# Altium integrated library Texas Instruments Power Management PWM Controller.IntLib: 1227 symbols (part 12 of 49)
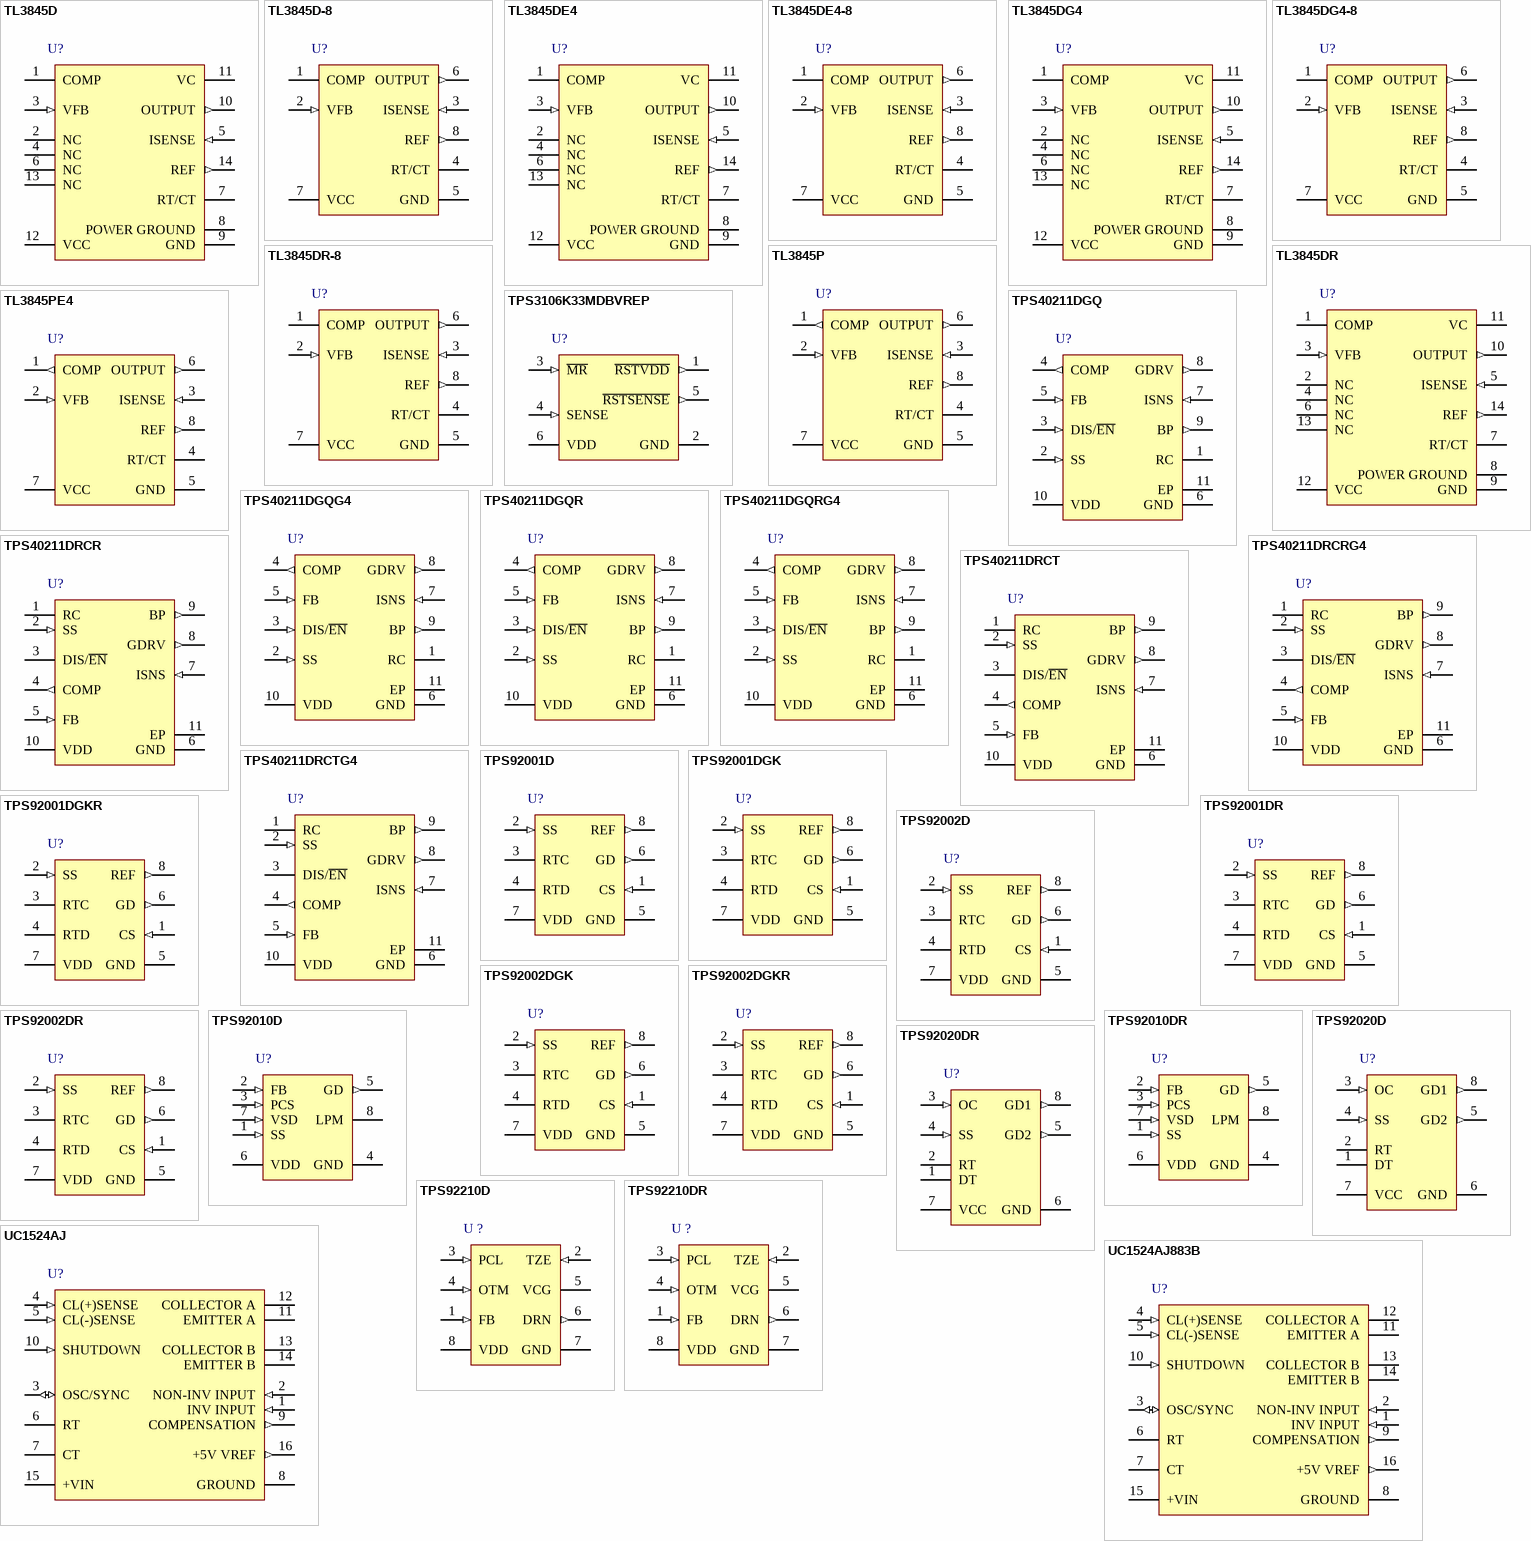
[diagram p54: symbols TL3845D to UC1524AJ883B]

## TPS40211DRCRG4
designator U?
4.5 to 52 V Input Current Mode Boost Controller, 95 % Duty Cycle, -40 to +125 degC, 10-pin SON (DRC), Green (RoHS & no Sb/Br); PartNumber: TPS40211DRCRG4; Manufacturer: Texas Instruments; Duty Cycle(Max)(%): 95; Rating: Catalog; Regulated Outputs(#): 1; SubFamily: PWM Controller; Switching Frequency(Max)(kHz): 1000; DatasheetVersion: SLUS772E; PackageVersion: revL, Sep-2011; PackageReference: DRC10-2400X1650TP; PackageDescription: 10-Pin Plastic Small Outline No-Lead, 3 x 3 x 1 mm Body, 0.5 mm Pitch, Exposed Pad; Supplier 1: Digi-Key; Supplier Part Number 1: TPS40211DRCRG4-ND; Supplier 2: Mouser; Supplier Part Number 2: 595-TPS40211DRCRG4; Eco-Plan: Green (RoHS & no Sb/Br); Topology: Boost; Mounting Technology: Surface Mount; ComponentLink1Description: Datasheet; ComponentLink1URL: http://www.ti.com/general/docs/lit/getliterature.tsp?genericPartNumber=TPS40211&fileType=pdf
footprint DRC10-2400X1650TP (SON, 10-Leads, Body 3x3mm, Pitch 0.5mm, Thermal Pad 2.4x1.65mm, TI Recommended)
pins: 1 RC "Switching frequency setting pin. Connect a resistor from RC pin to VDD of the IC power supply and a capacitor from RC to GND.", 2 SS (in) "Soft-start time programming pin. Connect capacitor from SS pin to GND to program converter soft-start time. This pin also functions as a timeout timer when the power supply is in an overcurrent condition.", 3 DIS/~{EN} "Disable pin. Pulling this pin high, places the part into a shutdown mode. Shutdown mode is characterized by a very low quiescent current. While in shutdown mode, the functionality of all blocks is disabled and the BP (See Datasheet)", 4 COMP (out) "Error amplifier output. Connect control loop compensation network between COMP pin and FB pin.", 5 FB (in) "Error amplifier inverting input. Connect a voltage divider from the output to this pin to set output voltage. Compensation network is connected between this pin and COMP.", 6 GND (power) "Device ground.", 7 ISNS (in) "Current sense pin. Connect an external current sensing resistor between this pin and GND. The voltage on this pin is used to provide current feedback in the control loop and detect an overcurrent condition. An overcurrent (See Datasheet)", 8 GDRV (out) "Connect the gate of the power N channel MOSFET to this pin.", 9 BP (out) "Regulator output pin. Connect a 1.0-uF bypass capacitor from this pin to GND.", 10 VDD (power) "System input voltage. Connect a local bypass capacitor from this pin to GND. Depending on the amount of required slope compensation, this pin can be connected to the converter output. See Application Information section for (See Datasheet)", 11 EP "Exposed thermal pad"

## TPS40211DRCT
designator U?
4.5 to 52 V Input Current Mode Boost Controller, 95 % Duty Cycle, -40 to +125 degC, 10-pin SON (DRC), Green (RoHS & no Sb/Br); PartNumber: TPS40211DRCT; Manufacturer: Texas Instruments; Duty Cycle(Max)(%): 95; Rating: Catalog; Regulated Outputs(#): 1; SubFamily: PWM Controller; Switching Frequency(Max)(kHz): 1000; DatasheetVersion: SLUS772E; PackageVersion: revL, Sep-2011; PackageReference: DRC10-2400X1650TP; PackageDescription: 10-Pin Plastic Small Outline No-Lead, 3 x 3 x 1 mm Body, 0.5 mm Pitch, Exposed Pad; Supplier 1: Digi-Key; Supplier Part Number 1: 296-23414-2-ND; Supplier 2: Digi-Key; Supplier Part Number 2: 296-23414-1-ND; Supplier 3: Digi-Key; Supplier Part Number 3: 296-23414-6-ND; Supplier 4: Newark; Supplier Part Number 4: 08P4468; Supplier 5: Mouser; Supplier Part Number 5: 595-TPS40211DRCT; Eco-Plan: Green (RoHS & no Sb/Br); Topology: Boost; Mounting Technology: Surface Mount; ComponentLink1Description: Datasheet; ComponentLink1URL: http://www.ti.com/general/docs/lit/getliterature.tsp?genericPartNumber=TPS40211&fileType=pdf
footprint DRC10-2400X1650TP (SON, 10-Leads, Body 3x3mm, Pitch 0.5mm, Thermal Pad 2.4x1.65mm, TI Recommended)
pins: 1 RC "Switching frequency setting pin. Connect a resistor from RC pin to VDD of the IC power supply and a capacitor from RC to GND.", 2 SS (in) "Soft-start time programming pin. Connect capacitor from SS pin to GND to program converter soft-start time. This pin also functions as a timeout timer when the power supply is in an overcurrent condition.", 3 DIS/~{EN} "Disable pin. Pulling this pin high, places the part into a shutdown mode. Shutdown mode is characterized by a very low quiescent current. While in shutdown mode, the functionality of all blocks is disabled and the BP (See Datasheet)", 4 COMP (out) "Error amplifier output. Connect control loop compensation network between COMP pin and FB pin.", 5 FB (in) "Error amplifier inverting input. Connect a voltage divider from the output to this pin to set output voltage. Compensation network is connected between this pin and COMP.", 6 GND (power) "Device ground.", 7 ISNS (in) "Current sense pin. Connect an external current sensing resistor between this pin and GND. The voltage on this pin is used to provide current feedback in the control loop and detect an overcurrent condition. An overcurrent (See Datasheet)", 8 GDRV (out) "Connect the gate of the power N channel MOSFET to this pin.", 9 BP (out) "Regulator output pin. Connect a 1.0-uF bypass capacitor from this pin to GND.", 10 VDD (power) "System input voltage. Connect a local bypass capacitor from this pin to GND. Depending on the amount of required slope compensation, this pin can be connected to the converter output. See Application Information section for (See Datasheet)", 11 EP "Exposed thermal pad"

## TPS40211DRCTG4
designator U?
4.5 to 52 V Input Current Mode Boost Controller, 95 % Duty Cycle, -40 to +125 degC, 10-pin SON (DRC), Green (RoHS & no Sb/Br); PartNumber: TPS40211DRCTG4; Manufacturer: Texas Instruments; Control Method: Voltage; Duty Cycle(Max)(%): 95; Rating: Catalog; Regulated Outputs(#): 1; SubFamily: PWM Controller; Switching Frequency(Max)(kHz): 1000; DatasheetVersion: SLUS772E; PackageVersion: revL, Sep-2011; PackageReference: DRC10-2400X1650TP; PackageDescription: 10-Pin Plastic Small Outline No-Lead, 3 x 3 x 1 mm Body, 0.5 mm Pitch, Exposed Pad; Supplier 1: Digi-Key; Supplier Part Number 1: TPS40211DRCTG4-ND; Supplier 2: Mouser; Supplier Part Number 2: 595-TPS40211DRCTG4; Eco-Plan: Green (RoHS & no Sb/Br); Topology: Boost; Mounting Technology: Surface Mount; ComponentLink1Description: Datasheet; ComponentLink1URL: http://www.ti.com/general/docs/lit/getliterature.tsp?genericPartNumber=TPS40211&fileType=pdf
footprint DRC10-2400X1650TP (SON, 10-Leads, Body 3x3mm, Pitch 0.5mm, Thermal Pad 2.4x1.65mm, TI Recommended)
pins: 1 RC "Switching frequency setting pin. Connect a resistor from RC pin to VDD of the IC power supply and a capacitor from RC to GND.", 2 SS (in) "Soft-start time programming pin. Connect capacitor from SS pin to GND to program converter soft-start time. This pin also functions as a timeout timer when the power supply is in an overcurrent condition.", 3 DIS/~{EN} "Disable pin. Pulling this pin high, places the part into a shutdown mode. Shutdown mode is characterized by a very low quiescent current. While in shutdown mode, the functionality of all blocks is disabled and the BP (See Datasheet)", 4 COMP (out) "Error amplifier output. Connect control loop compensation network between COMP pin and FB pin.", 5 FB (in) "Error amplifier inverting input. Connect a voltage divider from the output to this pin to set output voltage. Compensation network is connected between this pin and COMP.", 6 GND (power) "Device ground.", 7 ISNS (in) "Current sense pin. Connect an external current sensing resistor between this pin and GND. The voltage on this pin is used to provide current feedback in the control loop and detect an overcurrent condition. An overcurrent (See Datasheet)", 8 GDRV (out) "Connect the gate of the power N channel MOSFET to this pin.", 9 BP (out) "Regulator output pin. Connect a 1.0-uF bypass capacitor from this pin to GND.", 10 VDD (power) "System input voltage. Connect a local bypass capacitor from this pin to GND. Depending on the amount of required slope compensation, this pin can be connected to the converter output. See Application Information section for (See Datasheet)", 11 EP "Exposed thermal pad"

## TPS92001D
designator U?
General Purpose LED Lighting PWM Controller with Current Mode control, -40 to 85 degC, 8-pin SOIC (D),Green (RoHS & no Sb/Br); PartNumber: TPS92001D; Manufacturer: Texas Instruments; Frequency(Max)(kHz): 1000; Rating: Catalog; Topology: Flyback; UVLO Thresholds On/Off(V): 10/8; DatasheetVersion: SLUSA24A; PackageVersion: revM, Jun-2011; PackageReference: D8; PackageDescription: 8-Pin Plastic Small Outline Integrated Circuit, 4.9 x 3.9 mm, Pitch 1.27 mm Pitch; Supplier 1: Digi-Key; Supplier Part Number 1: TPS92001D-ND; Supplier 2: Newark; Supplier Part Number 2: 72R6682; Supplier 3: Mouser; Supplier Part Number 3: 595-TPS92001D; Control Method: Current; Eco-Plan: Green (RoHS & no Sb/Br); SubFamily: PWM Controller; Mounting Technology: Surface Mount; Code_JEDEC: MS-012AA; ComponentLink1Description: Datasheet; ComponentLink1URL: http://www.ti.com/general/docs/lit/getliterature.tsp?genericPartNumber=TPS92001&fileType=pdf
footprint D8_N (SOIC, 8-Leads, Body 4.9x3.9mm, Pitch 1.27mm, IPC Medium Density)
footprint D8_L (SOIC, 8-Leads, Body 4.9x3.9mm, Pitch 1.27mm, IPC High Density)
footprint D8_M (SOIC, 8-Leads, Body 4.9x3.9mm, Pitch 1.27mm, IPC Low Density)
pins: 1 CS (in) "This pin is the summing node for current sense feedback, voltage sense feedback (by optocoupler) and slope compensation. Slope compensation is derived from the rising voltage at the timing capacitor and can be buffered with (See Datasheet)", 2 SS (in) "This pin serves two functions. The soft start timing capacitor connects to SS and is charged by an internal 6-µA current source. Under normal soft-start, the SS pin is discharged to at least 0.4 V and then ramps positive to (See Datasheet)", 3 RTC "This pin connects to timing resistor RRTC , and controls the positive ramp (rise) time of the internal oscillator (see Equation 1). The positive threshold of the internal oscillator is sensed through inactive timing resistor (See Datasheet)", 4 RTD "This pin connects to timing resistor RTD and controls the negative ramp (fall) time of the internal oscillator (see Equation 2). The negative threshold of the internal oscillator is sensed through inactive timing resistor (See Datasheet)", 5 GND (power) "Reference ground and power ground for all functions.", 6 GD (out) "This pin is the high current power driver output. A minimum series gate resistor of 3.9 ohm is recommended to limit the gate drive current when operating with high-bias voltages.", 7 VDD (power) "The power input connection for this device. This pin is shunt regulated at 17.5 V which is sufficiently below the voltage rating of the DMOS output driver stage. VDD should be bypassed with a 1-uF ceramic capacitor.", 8 REF (out) "The internal 5-V reference output. This reference is buffered and is available on the REF pin. The REF pin should be bypassed with a 0.47-uF ceramic capacitor to GND."

## TPS92001DGK
designator U?
General Purpose LED Lighting PWM Controller with Current Mode control, -40 to 85 degC, 8-pin MSOP (DGK),Green (RoHS & no Sb/Br); PartNumber: TPS92001DGK; Manufacturer: Texas Instruments; Frequency(Max)(kHz): 1000; Rating: Catalog; Topology: Flyback; UVLO Thresholds On/Off(V): 10/8; DatasheetVersion: SLUSA24A; PackageVersion: revE, May-2006; PackageReference: DGK8; PackageDescription: 8-Pin Thin Small Outline Package 3 x 3 mm Body ,0.65 mm Pitch; Supplier 1: Digi-Key; Supplier Part Number 1: 296-34657-5-ND; Supplier 2: Newark; Supplier Part Number 2: 72R6683; Supplier 3: Mouser; Supplier Part Number 3: 595-TPS92001DGK; Control Method: Current; Eco-Plan: Green (RoHS & no Sb/Br); SubFamily: PWM Controller; Mounting Technology: Surface Mount; Code_JEDEC: MO-187-AA; ComponentLink1Description: Datasheet; ComponentLink1URL: http://www.ti.com/general/docs/lit/getliterature.tsp?genericPartNumber=TPS92001&fileType=pdf
footprint DGK8_N (TSOP, 8-Leads, Body 3x3mm, Pitch 0.65mm, IPC Medium Density)
footprint DGK8_L (TSOP, 8-Leads, Body 3x3mm, Pitch 0.65mm, IPC High Density)
footprint DGK8_M (TSOP, 8-Leads, Body 3x3mm, Pitch 0.65mm, IPC Low Density)
pins: 1 CS (in) "This pin is the summing node for current sense feedback, voltage sense feedback (by optocoupler) and slope compensation. Slope compensation is derived from the rising voltage at the timing capacitor and can be buffered with (See Datasheet)", 2 SS (in) "This pin serves two functions. The soft start timing capacitor connects to SS and is charged by an internal 6-uA current source. Under normal soft-start, the SS pin is discharged to at least 0.4 V and then ramps positive to (See Datasheet)", 3 RTC "This pin connects to timing resistor RRTC , and controls the positive ramp (rise) time of the internal oscillator. The positive threshold of the internal oscillator is sensed through inactive timing resistor RRTD which RTC 3 (See Datasheet)", 4 RTD "This pin connects to timing resistor RTD and controls the negative ramp (fall) time of the internal oscillator.The negative threshold of the internal oscillator is sensed through inactive timing resistor RRTC which RTD 4 I (See Datasheet)", 5 GND (power) "Reference ground and power ground for all functions.", 6 GD (out) "This pin is the high current power driver output. A minimum series gate resistor of 3.9 ohm is recommended to limit the gate drive current when operating with high-bias voltages.", 7 VDD (power) "The power input connection for this device. This pin is shunt regulated at 17.5 V which is sufficiently below the voltage rating of the DMOS output driver stage. VDD should be bypassed with a 1-uF ceramic capacitor.", 8 REF (out) "The internal 5-V reference output. This reference is buffered and is available on the REF pin. The REF pin should be bypassed with a 0.47-uF ceramic capacitor to GND."

## TPS92001DGKR
designator U?
General Purpose LED Lighting PWM Controller with Current Mode control, -40 to 85 degC, 8-pin MSOP (DGK),Green (RoHS & no Sb/Br); PartNumber: TPS92001DGKR; Manufacturer: Texas Instruments; Frequency(Max)(kHz): 1000; Rating: Catalog; Topology: Flyback; UVLO Thresholds On/Off(V): 10/8; DatasheetVersion: SLUSA24A; PackageVersion: revE, May-2006; PackageReference: DGK8; PackageDescription: 8-Pin Thin Small Outline Package 3 x 3 mm Body ,0.65 mm Pitch; Supplier 1: Digi-Key; Supplier Part Number 1: 296-25886-2-ND; Supplier 2: Digi-Key; Supplier Part Number 2: 296-25886-1-ND; Supplier 3: Digi-Key; Supplier Part Number 3: 296-25886-6-ND; Supplier 4: Newark; Supplier Part Number 4: 72R6684; Supplier 5: Mouser; Supplier Part Number 5: 595-TPS92001DGKR; Control Method: Current; Eco-Plan: Green (RoHS & no Sb/Br); SubFamily: PWM Controller; Mounting Technology: Surface Mount; Code_JEDEC: MO-187-AA; ComponentLink1Description: Datasheet; ComponentLink1URL: http://www.ti.com/general/docs/lit/getliterature.tsp?genericPartNumber=TPS92001&fileType=pdf
footprint DGK8_N (TSOP, 8-Leads, Body 3x3mm, Pitch 0.65mm, IPC Medium Density)
footprint DGK8_L (TSOP, 8-Leads, Body 3x3mm, Pitch 0.65mm, IPC High Density)
footprint DGK8_M (TSOP, 8-Leads, Body 3x3mm, Pitch 0.65mm, IPC Low Density)
pins: 1 CS (in) "This pin is the summing node for current sense feedback, voltage sense feedback (by optocoupler) and slope compensation. Slope compensation is derived from the rising voltage at the timing capacitor and can be buffered with (See Datasheet)", 2 SS (in) "This pin serves two functions. The soft start timing capacitor connects to SS and is charged by an internal 6-uA current source. Under normal soft-start, the SS pin is discharged to at least 0.4 V and then ramps positive to (See Datasheet)", 3 RTC "This pin connects to timing resistor RRTC , and controls the positive ramp (rise) time of the internal oscillator. The positive threshold of the internal oscillator is sensed through inactive timing resistor RRTD which RTC 3 (See Datasheet)", 4 RTD "This pin connects to timing resistor RTD and controls the negative ramp (fall) time of the internal oscillator.The negative threshold of the internal oscillator is sensed through inactive timing resistor RRTC which RTD 4 I (See Datasheet)", 5 GND (power) "Reference ground and power ground for all functions.", 6 GD (out) "This pin is the high current power driver output. A minimum series gate resistor of 3.9 ohm is recommended to limit the gate drive current when operating with high-bias voltages.", 7 VDD (power) "The power input connection for this device. This pin is shunt regulated at 17.5 V which is sufficiently below the voltage rating of the DMOS output driver stage. VDD should be bypassed with a 1-uF ceramic capacitor.", 8 REF (out) "The internal 5-V reference output. This reference is buffered and is available on the REF pin. The REF pin should be bypassed with a 0.47-uF ceramic capacitor to GND."

## TPS92001DR
designator U?
General Purpose LED Lighting PWM Controller with Current Mode Control, -40 to +85 degC, 8-pin SOIC (D), Green (RoHS & no Sb/Br); PartNumber: TPS92001DR; Manufacturer: Texas Instruments; Frequency(Max)(kHz): 1000; Rating: Catalog; Topology: Flyback; UVLO Thresholds On/Off(V): 10/8; DatasheetVersion: SLUSA24A; PackageVersion: revM, Jun-2011; PackageReference: D8; PackageDescription: 8-Pin Plastic Small Outline Integrated Circuit, 4.9 x 3.9 mm, Pitch 1.27 mm Pitch; Supplier 1: Digi-Key; Supplier Part Number 1: 296-25887-2-ND; Supplier 2: Digi-Key; Supplier Part Number 2: 296-25887-1-ND; Supplier 3: Digi-Key; Supplier Part Number 3: 296-25887-6-ND; Supplier 4: Newark; Supplier Part Number 4: 72R6685; Supplier 5: Mouser; Supplier Part Number 5: 595-TPS92001DR; Control Method: Current; Eco-Plan: Green (RoHS & no Sb/Br); SubFamily: PWM Controller; Mounting Technology: Surface Mount; Code_JEDEC: MS-012AA; ComponentLink1Description: Datasheet; ComponentLink1URL: http://www.ti.com/general/docs/lit/getliterature.tsp?genericPartNumber=TPS92001&fileType=pdf
footprint D8_N (SOIC, 8-Leads, Body 4.9x3.9mm, Pitch 1.27mm, IPC Medium Density)
footprint D8_L (SOIC, 8-Leads, Body 4.9x3.9mm, Pitch 1.27mm, IPC High Density)
footprint D8_M (SOIC, 8-Leads, Body 4.9x3.9mm, Pitch 1.27mm, IPC Low Density)
pins: 1 CS (in) "This pin is the summing node for current sense feedback, voltage sense feedback (by optocoupler) and slope compensation. Slope compensation is derived from the rising voltage at the timing capacitor and can be buffered with (See Datasheet)", 2 SS (in) "This pin serves two functions. The soft start timing capacitor connects to SS and is charged by an internal 6-µA current source. Under normal soft-start, the SS pin is discharged to at least 0.4 V and then ramps positive to (See Datasheet)", 3 RTC "This pin connects to timing resistor RRTC , and controls the positive ramp (rise) time of the internal oscillator (see Equation 1). The positive threshold of the internal oscillator is sensed through inactive timing resistor (See Datasheet)", 4 RTD "This pin connects to timing resistor RTD and controls the negative ramp (fall) time of the internal oscillator (see Equation 2). The negative threshold of the internal oscillator is sensed through inactive timing resistor (See Datasheet)", 5 GND (power) "Reference ground and power ground for all functions.", 6 GD (out) "This pin is the high current power driver output. A minimum series gate resistor of 3.9 ohm is recommended to limit the gate drive current when operating with high-bias voltages.", 7 VDD (power) "The power input connection for this device. This pin is shunt regulated at 17.5 V which is sufficiently below the voltage rating of the DMOS output driver stage. VDD should be bypassed with a 1-uF ceramic capacitor.", 8 REF (out) "The internal 5-V reference output. This reference is buffered and is available on the REF pin. The REF pin should be bypassed with a 0.47-uF ceramic capacitor to GND."

## TPS92002D
designator U?
General Purpose LED Lighting PWM Controller with Current Mode Control, -40 to +85 degC, 8-pin SOIC (D), Green (RoHS & no Sb/Br); PartNumber: TPS92002D; Manufacturer: Texas Instruments; Frequency(Max)(kHz): 1000; Rating: Catalog; Topology: Flyback; UVLO Thresholds On/Off(V): 15/8; DatasheetVersion: SLUSA24A; PackageVersion: revM, Jun-2011; PackageReference: D8; PackageDescription: 8-Pin Plastic Small Outline Integrated Circuit, 4.9 x 3.9 mm, Pitch 1.27 mm Pitch; Supplier 1: Digi-Key; Supplier Part Number 1: TPS92002D-ND; Supplier 2: Newark; Supplier Part Number 2: 72R6686; Supplier 3: Mouser; Supplier Part Number 3: 595-TPS92002D; Control Method: Current Mode; Eco-Plan: Green (RoHS & no Sb/Br); SubFamily: PWM Controller; Mounting Technology: Surface Mount; Code_JEDEC: MS-012AA; ComponentLink1Description: Datasheet; ComponentLink1URL: http://www.ti.com/general/docs/lit/getliterature.tsp?genericPartNumber=TPS92002&fileType=pdf; ComponentLink2Description: URL Link1; ComponentLink2URL: Samples URL:http://www.ti.com/lit/ds/symlink/tps92002.pdf
footprint D8_N (SOIC, 8-Leads, Body 4.9x3.9mm, Pitch 1.27mm, IPC Medium Density)
footprint D8_L (SOIC, 8-Leads, Body 4.9x3.9mm, Pitch 1.27mm, IPC High Density)
footprint D8_M (SOIC, 8-Leads, Body 4.9x3.9mm, Pitch 1.27mm, IPC Low Density)
pins: 1 CS (in) "This pin is the summing node for current sense feedback, voltage sense feedback (by optocoupler) and slope compensation. Slope compensation is derived from the rising voltage at the timing capacitor and can be buffered with (See Datasheet)", 2 SS (in) "This pin serves two functions. The soft start timing capacitor connects to SS and is charged by an internal 6-uA current source. Under normal soft-start, the SS pin is discharged to at least 0.4 V and then ramps positive to (See Datasheet)", 3 RTC "This pin connects to timing resistor RRTC , and controls the positive ramp (rise) time of the internal oscillator. The positive threshold of the internal oscillator is sensed through inactive timing resistor RRTD which (See Datasheet)", 4 RTD "This pin connects to timing resistor RTD and controls the negative ramp (fall) time of the internal oscillator. The negative threshold of the internal oscillator is sensed through inactive timing resistor RRTC which connects (See Datasheet)", 5 GND (power) "Reference ground and power ground for all functions.", 6 GD (out) "This pin is the high current power driver output. A minimum series gate resistor of 3.9 ohm is recommended to limit the gate drive current when operating with high-bias voltages.", 7 VDD (power) "The power input connection for this device. This pin is shunt regulated at 17.5V which is sufficiently below the voltage rating of the DMOS output driver stage. VDD should be bypassed with a 1-uF ceramic capacitor.", 8 REF (out) "The internal 5-V reference output. This reference is buffered and is available on the REF pin. The REF pin should be bypassed with a 0.47-uF ceramic capacitor to GND."

## TPS92002DGK
designator U?
General Purpose LED Lighting PWM Controller with Current Mode Control, -40 to +85 degC, 8-pin MSOP (DGK), Green (RoHS & no Sb/Br); PartNumber: TPS92002DGK; Manufacturer: Texas Instruments; Frequency(Max)(kHz): 1000; Rating: Catalog; Topology: Flyback; UVLO Thresholds On/Off(V): 15/8; DatasheetVersion: SLUSA24A; PackageVersion: revE, May-2006; PackageReference: DGK8; PackageDescription: 8-Pin Thin Small Outline Package 3 x 3 mm Body ,0.65 mm Pitch; Supplier 1: Digi-Key; Supplier Part Number 1: TPS92002DGK-ND; Supplier 2: Newark; Supplier Part Number 2: 72R6687; Supplier 3: Mouser; Supplier Part Number 3: 595-TPS92002DGK; Control Method: Current; Eco-Plan: Green (RoHS & no Sb/Br); SubFamily: PWM Controller; Mounting Technology: Surface Mount; Code_JEDEC: MO-187-AA; ComponentLink1Description: Datasheet; ComponentLink1URL: http://www.ti.com/general/docs/lit/getliterature.tsp?genericPartNumber=TPS92002&fileType=pdf
footprint DGK8_N (TSOP, 8-Leads, Body 3x3mm, Pitch 0.65mm, IPC Medium Density)
footprint DGK8_L (TSOP, 8-Leads, Body 3x3mm, Pitch 0.65mm, IPC High Density)
footprint DGK8_M (TSOP, 8-Leads, Body 3x3mm, Pitch 0.65mm, IPC Low Density)
pins: 1 CS (in) "This pin is the summing node for current sense feedback, voltage sense feedback (by optocoupler) and slope compensation. Slope compensation is derived from the rising voltage at the timing capacitor and can be buffered CS 1 (See Datasheet)", 2 SS (in) "This pin serves two functions. The soft start timing capacitor connects to SS and is charged by an internal 6-uA current source. Under normal soft-start, the SS pin is discharged to at least 0.4 V and then ramps positive to (See Datasheet)", 3 RTC "This pin connects to timing resistor RRTC , and controls the positive ramp (rise) time of the internal oscillator. The positive threshold of the internal oscillator is sensed through inactive timing resistor RRTD which (See Datasheet)", 4 RTD "This pin connects to timing resistor RTD and controls the negative ramp (fall) time of the internal oscillator . The negative threshold of the internal oscillator is sensed through inactive timing resistor RRTC which (See Datasheet)", 5 GND (power) "Reference ground and power ground for all functions.", 6 GD (out) "This pin is the high current power driver output. A minimum series gate resistor of 3.9 ohm is recommended to limit the gate drive current when operating with high-bias voltages.", 7 VDD (power) "The power input connection for this device. This pin is shunt regulated at 17.5 V which is sufficiently below the voltage rating of the DMOS output driver stage. VDD should be bypassed with a 1-uF ceramic capacitor.", 8 REF (out) "The internal 5-V reference output. This reference is buffered and is available on the REF pin. The REF pin should be bypassed with a 0.47-uF ceramic capacitor to GND."

## TPS92002DGKR
designator U?
General Purpose LED Lighting PWM Controller with Current Mode Control, -40 to +85 degC, 8-pin MSOP (DGK), Green (RoHS & no Sb/Br); PartNumber: TPS92002DGKR; Manufacturer: Texas Instruments; Frequency(Max)(kHz): 1000; Rating: Catalog; Topology: Flyback; UVLO Thresholds On/Off(V): 15/8; DatasheetVersion: SLUSA24A; PackageVersion: revE, May-2006; PackageReference: DGK8; PackageDescription: 8-Pin Thin Small Outline Package 3 x 3 mm Body ,0.65 mm Pitch; Supplier 1: Digi-Key; Supplier Part Number 1: 296-27181-2-ND; Supplier 2: Digi-Key; Supplier Part Number 2: 296-27181-1-ND; Supplier 3: Digi-Key; Supplier Part Number 3: 296-27181-6-ND; Supplier 4: Newark; Supplier Part Number 4: 72R6688; Supplier 5: Mouser; Supplier Part Number 5: 595-TPS92002DGKR; Control Method: Current; Eco-Plan: Green (RoHS & no Sb/Br); SubFamily: PWM Controller; Mounting Technology: Surface Mount; Code_JEDEC: MO-187-AA; ComponentLink1Description: Datasheet; ComponentLink1URL: http://www.ti.com/general/docs/lit/getliterature.tsp?genericPartNumber=TPS92002&fileType=pdf
footprint DGK8_N (TSOP, 8-Leads, Body 3x3mm, Pitch 0.65mm, IPC Medium Density)
footprint DGK8_L (TSOP, 8-Leads, Body 3x3mm, Pitch 0.65mm, IPC High Density)
footprint DGK8_M (TSOP, 8-Leads, Body 3x3mm, Pitch 0.65mm, IPC Low Density)
pins: 1 CS (in) "This pin is the summing node for current sense feedback, voltage sense feedback (by optocoupler) and slope compensation. Slope compensation is derived from the rising voltage at the timing capacitor and can be buffered CS 1 (See Datasheet)", 2 SS (in) "This pin serves two functions. The soft start timing capacitor connects to SS and is charged by an internal 6-uA current source. Under normal soft-start, the SS pin is discharged to at least 0.4 V and then ramps positive to (See Datasheet)", 3 RTC "This pin connects to timing resistor RRTC , and controls the positive ramp (rise) time of the internal oscillator. The positive threshold of the internal oscillator is sensed through inactive timing resistor RRTD which (See Datasheet)", 4 RTD "This pin connects to timing resistor RTD and controls the negative ramp (fall) time of the internal oscillator . The negative threshold of the internal oscillator is sensed through inactive timing resistor RRTC which (See Datasheet)", 5 GND (power) "Reference ground and power ground for all functions.", 6 GD (out) "This pin is the high current power driver output. A minimum series gate resistor of 3.9 ohm is recommended to limit the gate drive current when operating with high-bias voltages.", 7 VDD (power) "The power input connection for this device. This pin is shunt regulated at 17.5 V which is sufficiently below the voltage rating of the DMOS output driver stage. VDD should be bypassed with a 1-uF ceramic capacitor.", 8 REF (out) "The internal 5-V reference output. This reference is buffered and is available on the REF pin. The REF pin should be bypassed with a 0.47-uF ceramic capacitor to GND."

## TPS92002DR
designator U?
General Purpose LED Lighting PWM Controller with Current Mode Control, -40 to +85 degC, 8-pin SOIC (D), Green (RoHS & no Sb/Br); PartNumber: TPS92002DR; Manufacturer: Texas Instruments; Frequency(Max)(kHz): 1000; Rating: Catalog; Topology: Flyback; UVLO Thresholds On/Off(V): 15/8; DatasheetVersion: SLUSA24A; PackageVersion: revM, Jun-2011; PackageReference: D8; PackageDescription: 8-Pin Plastic Small Outline Integrated Circuit, 4.9 x 3.9 mm, Pitch 1.27 mm Pitch; Supplier 1: Digi-Key; Supplier Part Number 1: 296-27182-2-ND; Supplier 2: Digi-Key; Supplier Part Number 2: 296-27182-1-ND; Supplier 3: Digi-Key; Supplier Part Number 3: 296-27182-6-ND; Supplier 4: Mouser; Supplier Part Number 4: 595-TPS92002DR; Control Method: Current; Eco-Plan: Green (RoHS & no Sb/Br); SubFamily: PWM Controller; Mounting Technology: Surface Mount; Code_JEDEC: MS-012AA; ComponentLink1Description: Datasheet; ComponentLink1URL: http://www.ti.com/general/docs/lit/getliterature.tsp?genericPartNumber=TPS92002&fileType=pdf
footprint D8_N (SOIC, 8-Leads, Body 4.9x3.9mm, Pitch 1.27mm, IPC Medium Density)
footprint D8_L (SOIC, 8-Leads, Body 4.9x3.9mm, Pitch 1.27mm, IPC High Density)
footprint D8_M (SOIC, 8-Leads, Body 4.9x3.9mm, Pitch 1.27mm, IPC Low Density)
pins: 1 CS (in) "This pin is the summing node for current sense feedback, voltage sense feedback (by optocoupler) and slope compensation. Slope compensation is derived from the rising voltage at the timing capacitor and can be buffered with (See Datasheet)", 2 SS (in) "This pin serves two functions. The soft start timing capacitor connects to SS and is charged by an internal 6-uA current source. Under normal soft-start, the SS pin is discharged to at least 0.4 V and then ramps positive to (See Datasheet)", 3 RTC "This pin connects to timing resistor RRTC , and controls the positive ramp (rise) time of the internal oscillator. The positive threshold of the internal oscillator is sensed through inactive timing resistor RRTD which (See Datasheet)", 4 RTD "This pin connects to timing resistor RTD and controls the negative ramp (fall) time of the internal oscillator. The negative threshold of the internal oscillator is sensed through inactive timing resistor RRTC which connects (See Datasheet)", 5 GND (power) "Reference ground and power ground for all functions.", 6 GD (out) "This pin is the high current power driver output. A minimum series gate resistor of 3.9 ohm is recommended to limit the gate drive current when operating with high-bias voltages.", 7 VDD (power) "The power input connection for this device. This pin is shunt regulated at 17.5V which is sufficiently below the voltage rating of the DMOS output driver stage. VDD should be bypassed with a 1-uF ceramic capacitor.", 8 REF (out) "The internal 5-V reference output. This reference is buffered and is available on the REF pin. The REF pin should be bypassed with a 0.47-uF ceramic capacitor to GND."

## TPS92010D
designator U?
High Efficiency, Offline LED Lighting Driver Controller with Current Mode Control, 99 % Duty Cycle, -40 to +105 degC, 8-pin SOIC (D), Green (RoHS & no Sb/Br); PartNumber: TPS92010D; Manufacturer: Texas Instruments; Duty Cycle(Max)(%): 99; Frequency(Max)(kHz): 143; Rating: Catalog; SubFamily: PWM Controller; Topology: Flyback; UVLO Thresholds On/Off(V): 10.3/6.3; DatasheetVersion: SLUSA14; PackageVersion: revM, Jun-2011; PackageReference: D8; PackageDescription: 8-Pin Plastic Small Outline Integrated Circuit, 4.9 x 3.9 mm, Pitch 1.27 mm Pitch; Supplier 1: Digi-Key; Supplier Part Number 1: TPS92010D-ND; Supplier 2: Newark; Supplier Part Number 2: 69R0456; Supplier 3: Mouser; Supplier Part Number 3: 595-TPS92010D; Control Method: Current Mode; Eco-Plan: Green (RoHS & no Sb/Br); Mounting Technology: Surface Mount; Code_JEDEC: MS-012AA; ComponentLink1Description: Datasheet; ComponentLink1URL: http://www.ti.com/general/docs/lit/getliterature.tsp?genericPartNumber=TPS92010&fileType=pdf
footprint D8_N (SOIC, 8-Leads, Body 4.9x3.9mm, Pitch 1.27mm, IPC Medium Density)
footprint D8_L (SOIC, 8-Leads, Body 4.9x3.9mm, Pitch 1.27mm, IPC High Density)
footprint D8_M (SOIC, 8-Leads, Body 4.9x3.9mm, Pitch 1.27mm, IPC Low Density)
pins: 1 SS (in) "Soft-start programming pin. Program the soft-start rate with a capacitor to ground; the rate is determined by the capacitance and the internal soft-start charge current. Placement of the soft-start capacitor is critical and (See Datasheet)", 2 FB (in) "Feedback input or control input from the output sensing network to the PWM comparator used to control the peak current in the power MOSFET. An internal 20 k ohm resistor is between this pin and the internal 5-V regulated (See Datasheet)", 3 PCS (in) "Peak current sense input, also programs power limit and is used to control modulation and activate overcurrent  protection. The PCS voltage input originates across a current sense resistor and ground. Power limit is (See Datasheet)", 4 GND (power) "Ground for internal circuitry. Connect a ceramic 0.1-uF bypass capacitor between VDD and GND, with the capacitor as close to these two pins as possible.", 5 GD (out) "1-A sink (TrueDrive ) and 0.75-A source gate drive output. This output drives the power MOSFET and switches GD between GND and the lower of VDD or the 13-V internal output clamp.", 6 VDD (power) "Provides power to the device. Use a ceramic 0.1-uF by-pass capacitor for high-frequency filtering of the VDD pin,as described in the GND pin description. Operating energy is usually delivered from auxiliary winding. To (See Datasheet)", 7 VSD (in) "The valley switching detect (VSD) pin senses line, load and resonant conditions using the primary bias winding.", 8 LPM (hiz) "The low power mode pin is an ACTIVE HIGH open drain signal that indicates the device has entered low power mode. LPM pin is high during UVLO, (VDD < startup threshold), and softstart, (SS < FB)."

## TPS92010DR
designator U?
High Efficiency, Offline LED Lighting Driver Controller with Current Mode Control, 99 % Duty Cycle, -40 to +105 degC, 8-pin SOIC (D), Green (RoHS & no Sb/Br); PartNumber: TPS92010DR; Manufacturer: Texas Instruments; Duty Cycle(Max)(%): 99; Frequency(Max)(kHz): 143; Rating: Catalog; SubFamily: PWM Controller; Topology: Flyback; UVLO Thresholds On/Off(V): 10.3/6.3; DatasheetVersion: SLUSA14; PackageVersion: revM, Jun-2011; PackageReference: D8; PackageDescription: 8-Pin Plastic Small Outline Integrated Circuit, 4.9 x 3.9 mm, Pitch 1.27 mm Pitch; Supplier 1: Digi-Key; Supplier Part Number 1: 296-25781-2-ND; Supplier 2: Digi-Key; Supplier Part Number 2: 296-25781-1-ND; Supplier 3: Digi-Key; Supplier Part Number 3: 296-25781-6-ND; Supplier 4: Newark; Supplier Part Number 4: 69R0457; Supplier 5: Mouser; Supplier Part Number 5: 595-TPS92010DR; Control Method: Current; Eco-Plan: Green (RoHS & no Sb/Br); Mounting Technology: Surface Mount; Code_JEDEC: MS-012AA; ComponentLink1Description: Datasheet; ComponentLink1URL: http://www.ti.com/general/docs/lit/getliterature.tsp?genericPartNumber=TPS92010&fileType=pdf
footprint D8_N (SOIC, 8-Leads, Body 4.9x3.9mm, Pitch 1.27mm, IPC Medium Density)
footprint D8_L (SOIC, 8-Leads, Body 4.9x3.9mm, Pitch 1.27mm, IPC High Density)
footprint D8_M (SOIC, 8-Leads, Body 4.9x3.9mm, Pitch 1.27mm, IPC Low Density)
pins: 1 SS (in) "Soft-start programming pin. Program the soft-start rate with a capacitor to ground; the rate is determined by the capacitance and the internal soft-start charge current. Placement of the soft-start capacitor is critical and (See Datasheet)", 2 FB (in) "Feedback input or control input from the output sensing network to the PWM comparator used to control the peak current in the power MOSFET. An internal 20 k ohm resistor is between this pin and the internal 5-V regulated (See Datasheet)", 3 PCS (in) "Peak current sense input, also programs power limit and is used to control modulation and activate overcurrent  protection. The PCS voltage input originates across a current sense resistor and ground. Power limit is (See Datasheet)", 4 GND (power) "Ground for internal circuitry. Connect a ceramic 0.1-uF bypass capacitor between VDD and GND, with the capacitor as close to these two pins as possible.", 5 GD (out) "1-A sink (TrueDrive ) and 0.75-A source gate drive output. This output drives the power MOSFET and switches GD between GND and the lower of VDD or the 13-V internal output clamp.", 6 VDD (power) "Provides power to the device. Use a ceramic 0.1-uF by-pass capacitor for high-frequency filtering of the VDD pin,as described in the GND pin description. Operating energy is usually delivered from auxiliary winding. To (See Datasheet)", 7 VSD (in) "The valley switching detect (VSD) pin senses line, load and resonant conditions using the primary bias winding.", 8 LPM (hiz) "The low power mode pin is an ACTIVE HIGH open drain signal that indicates the device has entered low power mode. LPM pin is high during UVLO, (VDD < startup threshold), and softstart, (SS < FB)."

## TPS92020D
designator U?
Resonant-Switching Driver Controller for LED Lighting with Voltage Mode Control, 50 % Duty Cycle, -40 to +125 degC, 8-pin SOIC (D), Green (RoHS & no Sb/Br); PartNumber: TPS92020D; Manufacturer: Texas Instruments; Duty Cycle(Max)(%): 50; Frequency(Max)(kHz): 350; Rating: Catalog; Regulated Outputs(#): 2; SubFamily: PWM Controller; Topology: Resonant, Half-Bridge; UVLO Thresholds On/Off(V): 10.5/9.5; DatasheetVersion: SLUSA54; PackageVersion: revM, Jun-2011; PackageReference: D8; PackageDescription: 8-Pin Plastic Small Outline Integrated Circuit, 4.9 x 3.9 mm, Pitch 1.27 mm Pitch; Supplier 1: Farnell; Supplier Part Number 1: 1855135; Supplier 2: Newark; Supplier Part Number 2: 99R2200; Supplier 3: Mouser; Supplier Part Number 3: 595-TPS92020D; Control Method: Voltage Mode; Eco-Plan: Green (RoHS & no Sb/Br); Mounting Technology: Surface Mount; Code_JEDEC: MS-012AA; ComponentLink1Description: Datasheet; ComponentLink1URL: http://www.ti.com/general/docs/lit/getliterature.tsp?genericPartNumber=TPS92020&fileType=pdf
footprint D8_N (SOIC, 8-Leads, Body 4.9x3.9mm, Pitch 1.27mm, IPC Medium Density)
footprint D8_L (SOIC, 8-Leads, Body 4.9x3.9mm, Pitch 1.27mm, IPC High Density)
footprint D8_M (SOIC, 8-Leads, Body 4.9x3.9mm, Pitch 1.27mm, IPC Low Density)
pins: 1 DT "Sets the dead time of high-side and low-side switch driving signals. Connect a resistor to ground. With internal 2.25-V voltage reference, the current flowing through the resistor sets the dead time. To prevent shoot through (See Datasheet)", 2 RT "The current flowing out of this pin sets the frequency of the gate driver signals. Connect the opto-coupler collector to this pin to control the switching frequency for regulation purpose. Parallel a resistor to ground to (See Datasheet)", 3 OC (in) "Overcurrent protection. When the voltage on this pin is above 1 V, gate driver signals are actively pulled low.After the voltage falls below 0.6 V, the gate driver signal recovers with soft start. When OC pin voltage is (See Datasheet)", 4 SS (in) "Soft-start. This pin sets the soft-start time of the system. Connect a capacitor to ground. Pulling this pin below 1 V disables the device to allow easy ON/OFF control. The soft-start function is enabled after all fault (See Datasheet)", 5 GD2 (out) "High-side and low-side switch gate driver. Connect gate driver transformer primary side to these two pins to drive the half bridge.", 6 GND (power) "Ground.", 7 VCC (power) "Bias supply. Connect this pin to a power supply less than 20 V. Place a 1uF capacitor in parallel to ground to filter out noise.", 8 GD1 (out) "High-side and low-side switch gate driver. Connect gate driver transformer primary side to these two pins to drive the half bridge."

## TPS92020DR
designator U?
Resonant-Switching Driver Controller for LED Lighting with Voltage Control, 50 % Duty Cycle, -40 to +125 degC, 8-pin SOIC (D), Green (RoHS & no Sb/Br); PartNumber: TPS92020DR; Manufacturer: Texas Instruments; Duty Cycle(Max)(%): 50; Frequency(Max)(kHz): 350; Rating: Catalog; Regulated Outputs(#): 2; SubFamily: PWM Controller; Topology: Resonant, Half-Bridge; UVLO Thresholds On/Off(V): 10.5/9.5; DatasheetVersion: SLUSA54; PackageVersion: revM, Jun-2011; PackageReference: D8; PackageDescription: 8-Pin Plastic Small Outline Integrated Circuit, 4.9 x 3.9 mm, Pitch 1.27 mm Pitch; Supplier 1: Digi-Key; Supplier Part Number 1: 296-27846-2-ND; Supplier 2: Digi-Key; Supplier Part Number 2: 296-27846-1-ND; Supplier 3: Digi-Key; Supplier Part Number 3: 296-27846-6-ND; Supplier 4: Mouser; Supplier Part Number 4: 595-TPS92020DR; Control Method: Voltage; Eco-Plan: Green (RoHS & no Sb/Br); Mounting Technology: Surface Mount; Code_JEDEC: MS-012AA; ComponentLink1Description: Datasheet; ComponentLink1URL: http://www.ti.com/general/docs/lit/getliterature.tsp?genericPartNumber=TPS92020&fileType=pdf
footprint D8_N (SOIC, 8-Leads, Body 4.9x3.9mm, Pitch 1.27mm, IPC Medium Density)
footprint D8_L (SOIC, 8-Leads, Body 4.9x3.9mm, Pitch 1.27mm, IPC High Density)
footprint D8_M (SOIC, 8-Leads, Body 4.9x3.9mm, Pitch 1.27mm, IPC Low Density)
pins: 1 DT "Sets the dead time of high-side and low-side switch driving signals. Connect a resistor to ground. With internal 2.25-V voltage reference, the current flowing through the resistor sets the dead time. To prevent shoot through (See Datasheet)", 2 RT "The current flowing out of this pin sets the frequency of the gate driver signals. Connect the opto-coupler collector to this pin to control the switching frequency for regulation purpose. Parallel a resistor to ground to (See Datasheet)", 3 OC (in) "Overcurrent protection. When the voltage on this pin is above 1 V, gate driver signals are actively pulled low.After the voltage falls below 0.6 V, the gate driver signal recovers with soft start. When OC pin voltage is (See Datasheet)", 4 SS (in) "Soft-start. This pin sets the soft-start time of the system. Connect a capacitor to ground. Pulling this pin below 1 V disables the device to allow easy ON/OFF control. The soft-start function is enabled after all fault (See Datasheet)", 5 GD2 (out) "High-side and low-side switch gate driver. Connect gate driver transformer primary side to these two pins to drive the half bridge.", 6 GND (power) "Ground.", 7 VCC (power) "Bias supply. Connect this pin to a power supply less than 20 V. Place a 1uF capacitor in parallel to ground to filter out noise.", 8 GD1 (out) "High-side and low-side switch gate driver. Connect gate driver transformer primary side to these two pins to drive the half bridge."

## TPS92210D
designator U ?
High Efficiency, Offline LED Lighting Driver Controller with Current Mode Control, -40 to +125 degC, 8-pin SOIC (D), Green (RoHS & no Sb/Br); PartNumber: TPS92210D; Manufacturer: Texas Instruments; Frequency(Max)(kHz): 130; Rating: Catalog; SubFamily: PWM Controller; Topology: Flyback; DatasheetVersion: SLUS989A; PackageVersion: revM, Jun-2011; PackageReference: D8; PackageDescription: 8-Pin Plastic Small Outline Integrated Circuit, 4.9 x 3.9 mm, Pitch 1.27 mm Pitch; Supplier 1: Digi-Key; Supplier Part Number 1: 296-34660-5-ND; Supplier 2: Farnell; Supplier Part Number 2: 2119751; Supplier 3: Farnell; Supplier Part Number 3: 1864822; Supplier 4: Newark; Supplier Part Number 4: 69R0458; Supplier 5: Mouser; Supplier Part Number 5: 595-TPS92210D; Control Method: Current Mode; Eco-Plan: Green (RoHS & no Sb/Br); UVLO Thresholds On/Off(V): 10.2/8; Mounting Technology: Surface Mount; Code_JEDEC: MS-012AA; ComponentLink1Description: Datasheet; ComponentLink1URL: http://www.ti.com/general/docs/lit/getliterature.tsp?genericPartNumber=TPS92210&fileType=pdf
footprint D8_N (SOIC, 8-Leads, Body 4.9x3.9mm, Pitch 1.27mm, IPC Medium Density)
footprint D8_L (SOIC, 8-Leads, Body 4.9x3.9mm, Pitch 1.27mm, IPC High Density)
footprint D8_M (SOIC, 8-Leads, Body 4.9x3.9mm, Pitch 1.27mm, IPC Low Density)
pins: 1 FB (in) "The FB pin is regulated at 0.7 V and only detects current input (FB current,IFB) which commands the operating mode of TPS92210. For peak-current mode control, this pin is connected to the emitter of the feedback opto coupler.(See Datasheet)", 2 TZE (in) "A resistive divider between the primary-side auxiliary winding and this pin is used to detect when the transformer is demagnetized resulting in transformer zero energy. The ratio of the resistive divider at this pin can also (See Datasheet)", 3 PCL (in) "The PCL pin programs the peak primary inductor current that is reached each switching cycle. The primary current is sensed with the RDS(on) of the internal MOSFET and is programmed by setting a threshold by connecting a low (See Datasheet)", 4 OTM (in) "the OTM pin is internally regulated at 3 V and used to program the on-time of the cascode (flyback) switch by connecting a resistor (ROTM) from this pin to the quiet return of GND. The collector of the opto-coupler is (See Datasheet)", 5 VCG "The VCG pin provides the bias voltage for the gate of the cascode MOSFET. Place a 0.1-µF ceramic capacitorbetween VCG and GND, as close as possible to the high-voltage MOSFET. This pin also provides start-up biasthrough a (See Datasheet)", 6 DRN (out) "The DRN pin is the drain of the internal low voltage power MOSFET of the TPS92210 and carries the peak primary inductor current, IPEAK(pri). Connect this pin to the source of the external cascode power MOSFET. A schottky (See Datasheet)", 7 GND (power) "This GND pin is the current return terminal for both the analog and power signals in the TPS92210. This terminal carries the full drain current, IDRN, which is equal to the peak primary current, IPEAK(pri), in addition to (See Datasheet)", 8 VDD (power) "VDD is the bias supply pin for the TPS92210. It can be derived from an external source, or an auxiliary winding.Place a 0.1-μF ceramic capacitor between VDD and GND, as close to the device as possible. This pin also enables (See Datasheet)"